# Altium footprint library WR-TBL_Rising Cage Clamp_9.52mm.PcbLib: 2 footprints
Each footprint in its own frame and in the unit in brackets; x right, y up, seen from the top. Pads: shape width x height; smd on the part's side, far side on the other; paste and mask are expansions set on the pad; w line width, h text height; cw(c..) or ccw(c..) is an arc to the next point about the centre after c.
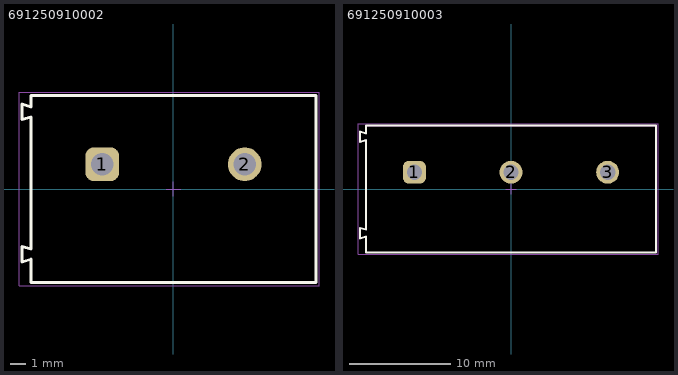
[diagram p0: the footprints below, top view; thin cyan lines are the x and y axes]

## 691250910002 [mm] "Serie 2509 - 9.52 mm _ 2 pins"
height 21.5
pads (2):
  rrect50% 2.25x2.25 hole 1.5: 1(-4.76,1.65)
  round 2.25 hole 1.5: 2(4.76,1.65)
Top Overlay:
  lines w0.2: -10.12,-4.865 -9.52,-4.69 -9.52,-6.25 9.52,-6.25 9.52,6.25 -9.52,6.25 -9.52,5.49 -10.12,5.665 -10.12,4.635 -9.52,4.81 -9.52,-4.01 -10.12,-3.835 -10.12,-4.865
Top Designator:
  text ".Designator" at -7.498,-0.5 h1.5
Top Component Outline:
  lines w0.1: -10.12,-4.865 -10.12,-3.835 -9.52,-4.01 -9.52,4.81 -10.12,4.635 -10.12,5.665 -9.52,5.49 -9.52,6.25 9.52,6.25 9.52,-6.25 -9.52,-6.25 -9.52,-4.69 -10.12,-4.865
Top 3D Body:
  lines w0.1: -10.12,-4.865 -9.52,-4.69 -9.52,-6.25 9.52,-6.25 9.52,6.25 -9.52,6.25 -9.52,5.49 -10.12,5.665 -10.12,4.635 -9.52,4.81 -9.52,-4.01 -10.12,-3.835 -10.12,-4.865
Top Courtyard:
  lines w0.05: -10.32,-6.45 9.72,-6.45 9.72,6.45 -10.32,6.45 -10.32,-6.45
Top Component Center:
  lines w0.05: -0.5,0 0.5,0 ; 0,-0.5 0,0.5
3D body "691250910002.stp": height 21.6, standoff -4.9, extent -10.12,-6.25 9.52,6.25

## 691250910003 [mm] "Serie 2509 - 9.52 mm _ 3 pins"
height 21.5
pads (3):
  rrect50% 2.25x2.25 hole 1.5: 1(-9.52,1.65)
  round 2.25 hole 1.5: 2(0,1.65) 3(9.52,1.65)
Top Overlay:
  lines w0.2: -14.88,-4.865 -14.88,-3.835 -14.28,-4.01 -14.28,4.81 -14.88,4.635 -14.88,5.665 -14.28,5.49 -14.28,6.25 14.28,6.25 14.28,-6.25 -14.28,-6.25 -14.28,-4.69 -14.88,-4.865
Top Designator:
  text ".Designator" at -7.498,-0.5 h1.5
Top Component Outline:
  lines w0.1: -14.88,-4.865 -14.28,-4.69 -14.28,-6.25 14.28,-6.25 14.28,6.25 -14.28,6.25 -14.28,5.49 -14.88,5.665 -14.88,4.635 -14.28,4.81 -14.28,-4.01 -14.88,-3.835 -14.88,-4.865
Top 3D Body:
  lines w0.1: -14.88,-4.865 -14.88,-3.835 -14.28,-4.01 -14.28,4.81 -14.88,4.635 -14.88,5.665 -14.28,5.49 -14.28,6.25 14.28,6.25 14.28,-6.25 -14.28,-6.25 -14.28,-4.69 -14.88,-4.865
Top Courtyard:
  lines w0.05: -15.08,-6.45 -15.08,6.45 14.48,6.45 14.48,-6.45 -15.08,-6.45
Top Component Center:
  lines w0.05: -0.5,0 0.5,0 ; 0,-0.5 0,0.5
3D body "691250910003.stp": height 21.6, standoff -4.9, extent -14.88,-6.25 14.28,6.25